# EAGLE library part XC95144XL_TQ100 (library CEDT_JANUARY_2015_v6)
Xilinx XC95144XL TQPF100
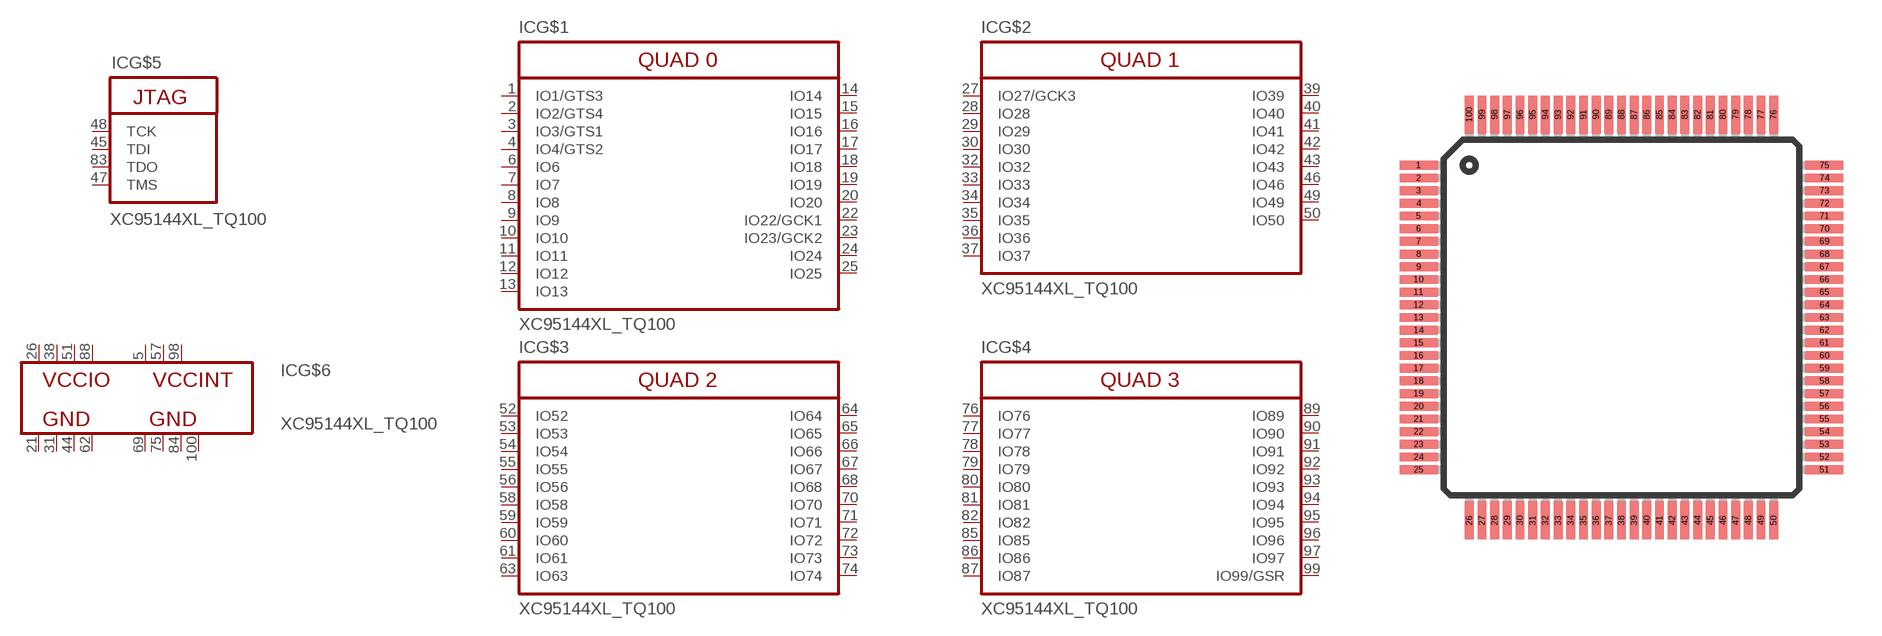
[diagram p76: symbol with the pads of TQ100; footprint TQ100]

Designator prefix IC; gates G$1=XC95144XL_TQ100_QUAD0 G$2=XC95144XL_TQ100_QUAD1 G$3=XC95144XL_TQ100_QUAD2 G$4=XC95144XL_TQ100_QUAD3 G$5=XC95144XL_TQ100_JTAG G$6=XC95144XL_TQ100_POWER

## XC95144XL_TQ100  [TQ100]
1  G$1:IO1/GTS3  pas
2  G$1:IO2/GTS4  pas
3  G$1:IO3/GTS1  pas
4  G$1:IO4/GTS2  pas
5  G$6:VCCINT  pas
6  G$1:IO6  pas
7  G$1:IO7  pas
8  G$1:IO8  pas
9  G$1:IO9  pas
10  G$1:IO10  pas
11  G$1:IO11  pas
12  G$1:IO12  pas
13  G$1:IO13  pas
14  G$1:IO14  pas
15  G$1:IO15  pas
16  G$1:IO16  pas
17  G$1:IO17  pas
18  G$1:IO18  pas
19  G$1:IO19  pas
20  G$1:IO20  pas
21  G$6:GND  pas
22  G$1:IO22/GCK1  pas
23  G$1:IO23/GCK2  pas
24  G$1:IO24  pas
25  G$1:IO25  pas
26  G$6:VCCIO  pas
27  G$2:IO27/GCK3  pas
28  G$2:IO28  pas
29  G$2:IO29  pas
30  G$2:IO30  pas
31  G$6:GND  pas
32  G$2:IO32  pas
33  G$2:IO33  pas
34  G$2:IO34  pas
35  G$2:IO35  pas
36  G$2:IO36  pas
37  G$2:IO37  pas
38  G$6:VCCIO  pas
39  G$2:IO39  pas
40  G$2:IO40  pas
41  G$2:IO41  pas
42  G$2:IO42  pas
43  G$2:IO43  pas
44  G$6:GND  pas
45  G$5:TDI  pas
46  G$2:IO46  pas
47  G$5:TMS  pas
48  G$5:TCK  pas
49  G$2:IO49  pas
50  G$2:IO50  pas
51  G$6:VCCIO  pas
52  G$3:IO52  pas
53  G$3:IO53  pas
54  G$3:IO54  pas
55  G$3:IO55  pas
56  G$3:IO56  pas
57  G$6:VCCINT  pas
58  G$3:IO58  pas
59  G$3:IO59  pas
60  G$3:IO60  pas
61  G$3:IO61  pas
62  G$6:GND  pas
63  G$3:IO63  pas
64  G$3:IO64  pas
65  G$3:IO65  pas
66  G$3:IO66  pas
67  G$3:IO67  pas
68  G$3:IO68  pas
69  G$6:GND  pas
70  G$3:IO70  pas
71  G$3:IO71  pas
72  G$3:IO72  pas
73  G$3:IO73  pas
74  G$3:IO74  pas
75  G$6:GND  pas
76  G$4:IO76  pas
77  G$4:IO77  pas
78  G$4:IO78  pas
79  G$4:IO79  pas
80  G$4:IO80  pas
81  G$4:IO81  pas
82  G$4:IO82  pas
83  G$5:TDO  pas
84  G$6:GND  pas
85  G$4:IO85  pas
86  G$4:IO86  pas
87  G$4:IO87  pas
88  G$6:VCCIO  pas
89  G$4:IO89  pas
90  G$4:IO90  pas
91  G$4:IO91  pas
92  G$4:IO92  pas
93  G$4:IO93  pas
94  G$4:IO94  pas
95  G$4:IO95  pas
96  G$4:IO96  pas
97  G$4:IO97  pas
98  G$6:VCCINT  pas
99  G$4:IO99/GSR  pas
100  G$6:GND  pas

## Footprint TQ100 (pad centres in mm)
smd 1.5 x 0.35: 1 -8,6; 2 -8,5.5; 3 -8,5; 4 -8,4.5; 5 -8,4; 6 -8,3.5; 7 -8,3; 8 -8,2.5; 9 -8,2; 10 -8,1.5; 11 -8,1; 12 -8,0.5; 13 -8,0; 14 -8,-0.5; 15 -8,-1; 16 -8,-1.5; 17 -8,-2; 18 -8,-2.5; 19 -8,-3; 20 -8,-3.5; 21 -8,-4; 22 -8,-4.5; 23 -8,-5; 24 -8,-5.5; 25 -8,-6; 51 8,-6; 52 8,-5.5; 53 8,-5; 54 8,-4.5; 55 8,-4; 56 8,-3.5; 57 8,-3; 58 8,-2.5; 59 8,-2; 60 8,-1.5; 61 8,-1; 62 8,-0.5; 63 8,0; 64 8,0.5; 65 8,1; 66 8,1.5; 67 8,2; 68 8,2.5; 69 8,3; 70 8,3.5; 71 8,4; 72 8,4.5; 73 8,5; 74 8,5.5; 75 8,6
smd 0.35 x 1.5: 26 -6,-8; 27 -5.5,-8; 28 -5,-8; 29 -4.5,-8; 30 -4,-8; 31 -3.5,-8; 32 -3,-8; 33 -2.5,-8; 34 -2,-8; 35 -1.5,-8; 36 -1,-8; 37 -0.5,-8; 38 0,-8; 39 0.5,-8; 40 1,-8; 41 1.5,-8; 42 2,-8; 43 2.5,-8; 44 3,-8; 45 3.5,-8; 46 4,-8; 47 4.5,-8; 48 5,-8; 49 5.5,-8; 50 6,-8; 76 6,8; 77 5.5,8; 78 5,8; 79 4.5,8; 80 4,8; 81 3.5,8; 82 3,8; 83 2.5,8; 84 2,8; 85 1.5,8; 86 1,8; 87 0.5,8; 88 0,8; 89 -0.5,8; 90 -1,8; 91 -1.5,8; 92 -2,8; 93 -2.5,8; 94 -3,8; 95 -3.5,8; 96 -4,8; 97 -4.5,8; 98 -5,8; 99 -5.5,8; 100 -6,8